# Altium integrated library Maxim Analog Filters.IntLib: 555 symbols (part 9 of 26)
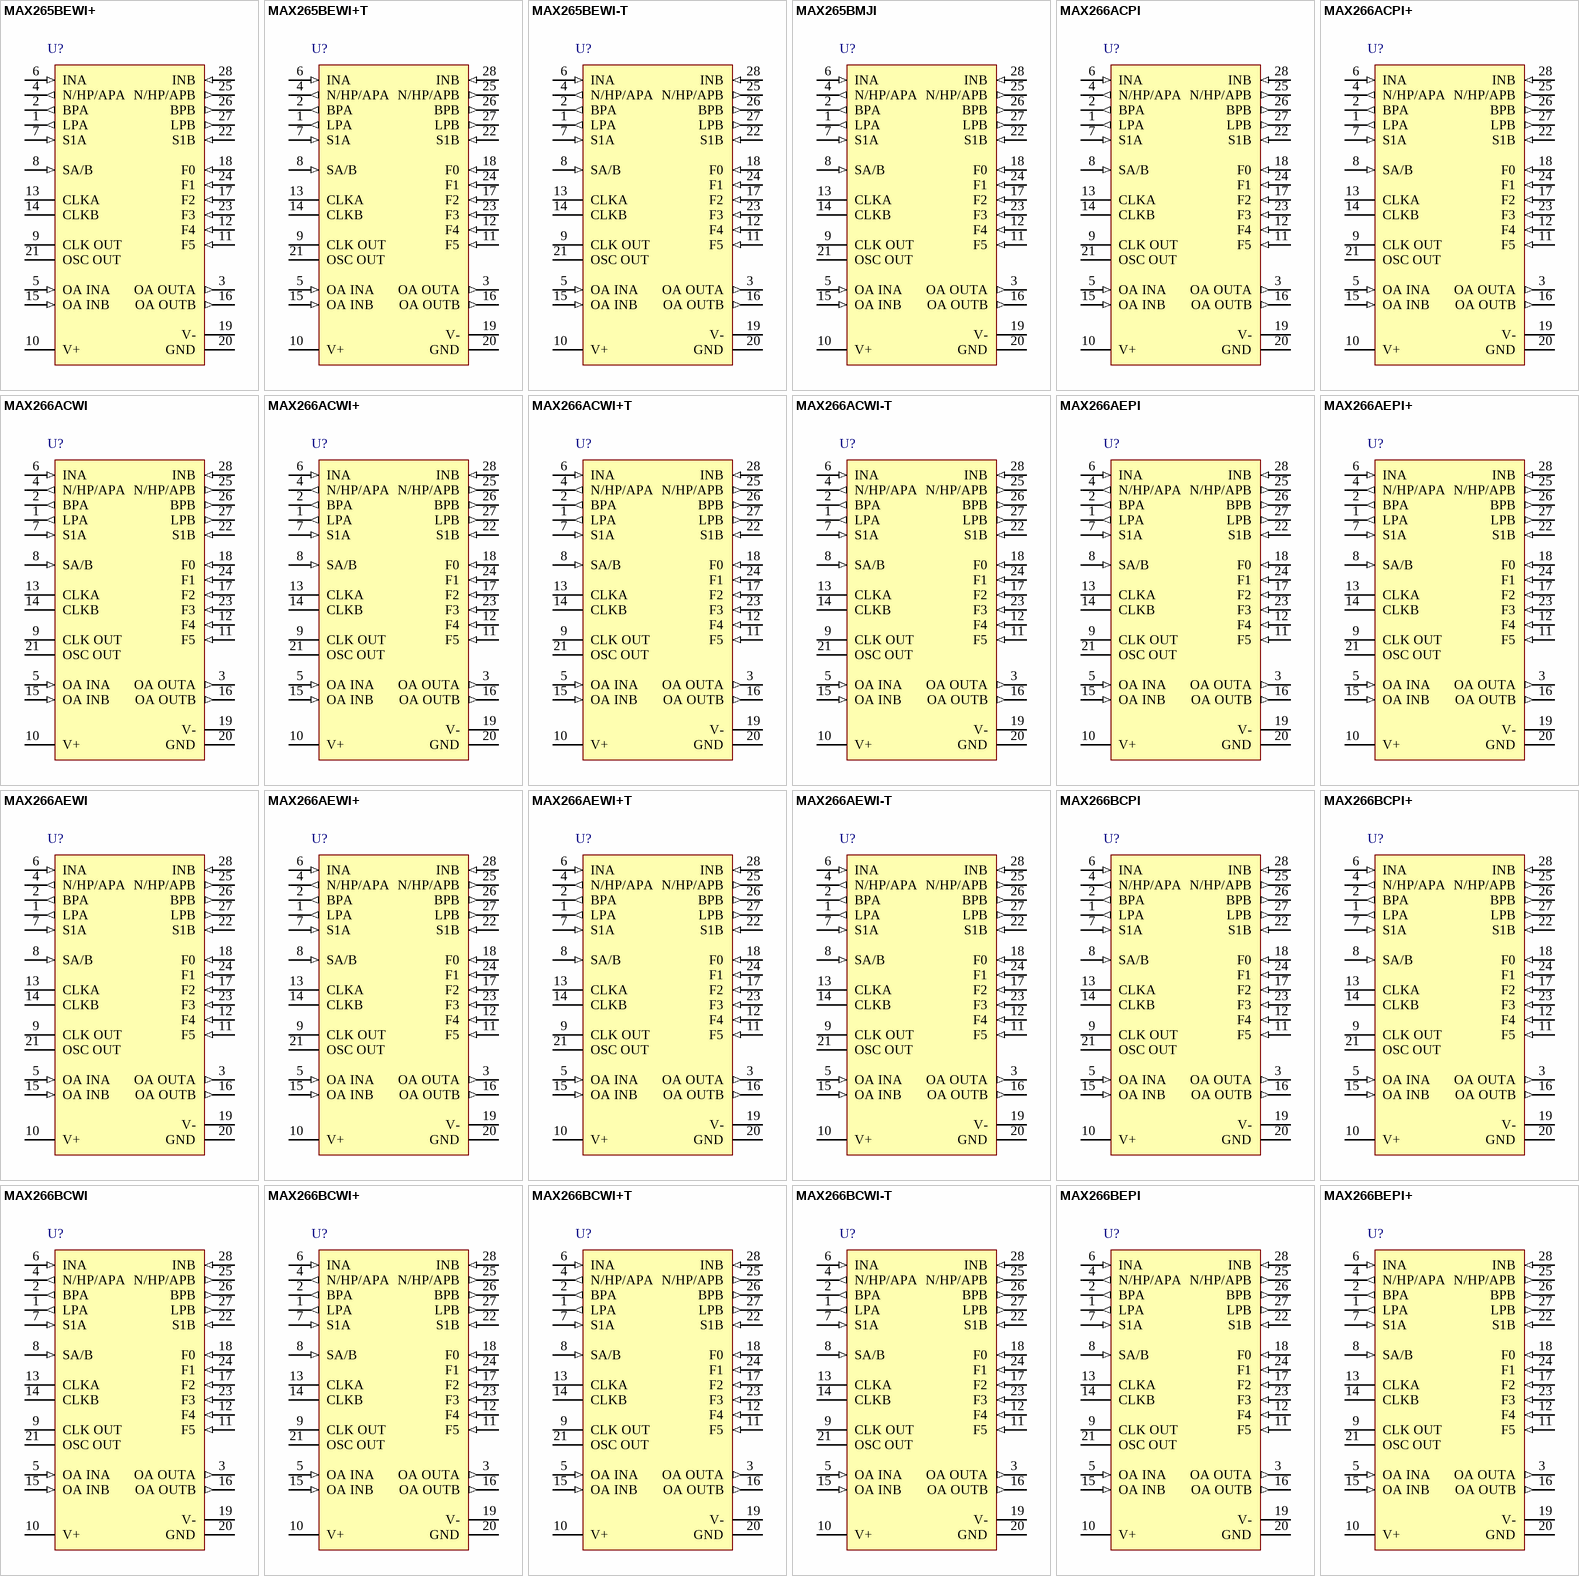
[diagram p25: symbols MAX265BEWI+ to MAX266BEPI+]

## MAX266BEPI+
designator U?
Switched Capacitor Filter, Pin Strap, Resistor Programmable, -40 to 85 degC, 28-Pin DIP (P28+5), Pb-Free; Generic Part Number: MAX266; PartNumber: MAX266BEPI+; Filter Sections: 2; Filter Type: Universal; DatasheetVersion: Rev. 0; PackageVersion: Rev. D, 04/2011; PackageReference: P28+5; PackageDescription: 28-Pin Plastic Dual-In-Line, Wide (0.6in) (P28+5), Body 36.83 x 13.975 mm, Pitch 2.54 mm; Supplier 1: Digi-Key; Supplier Part Number 1: MAX266BEPI+-ND; Supplier 2: Mouser; Supplier Part Number 2: 700-MAX266BEPI; Filter Characteristic: Programmable; Filter Class: Switched Cap; Order Per Filter Section: 2; Program Method: Pin Strap, Resistor; RoHS: Pb-Free; Mounting Technology: Through Hole; Code_JEDEC: MSO11; ComponentLink1Description: Manufacturer URL; ComponentLink1URL: http://www.maximintegrated.com/; ComponentLink2Description: Datasheet; ComponentLink2URL: http://datasheets.maximintegrated.com/en/ds/MAX265-MAX266.pdf; ComponentLink3Description: Package Specification; ComponentLink3URL: http://pdfserv.maximintegrated.com/package_dwgs/21-0044.PDF
footprint MAXM-P28+5 (DIP, 28-Leads, Body 36.83x13.975mm, Pitch 2.54mm)
pins: 1 LPA (out) "Lowpass outputs", 2 BPA (out) "Bandpass outputs", 3 OA OUTA (out) "Output of op amps A", 4 N/HP/APA (out), 5 OA INA (in) "Inverting input of op amps A", 6 INA (in) "Filter input", 7 S1A (in) "Auxiliary input to summing node in A filter. It receives feedback signals in various filter modes.", 8 SA/B (in) "When SA/B is high, one filter summing node is tied to the LP output. When SA/B is low, the summing node is grounded. See Mode diagrams (Figures 5-20) for SA/B connections.", 9 CLK OUT "Clock Output for crystal and R-C oscillator operation.", 10 V+ (power) "Positive supply voltage", 11 F5 (in) "Programming input for fCLK/f0 ratio", 12 F4 (in) "Programming input for fCLK/f0 ratio", 13 CLKA "Input to the oscillator and clock input to section A. This clock is internally divided by 2.", 14 CLKB "Clock input to filter B. This clock is internally divided by 2.", 15 OA INB (in) "Inverting input of op amps B", 16 OA OUTB (out) "Output of op amps B", 17 F2 (in) "Programming input for fCLK/f0 ratio", 18 F0 (in) "Programming input for fCLK/f0 ratio", 19 V- (power) "Negative supply voltage", 20 GND (power) "Analog Ground. Connect to the system ground for +/- supplies or to mid-supply for single supply operation. GND should be well bypassed in single supply applications.", 21 OSC OUT "Connects to crystal or R-C for self-clocked operation.", 22 S1B (in) "Auxiliary input to summing node in B filter. It receives feedback signals in various filter modes.", 23 F3 (in) "Programming input for fCLK/f0 ratio", 24 F1 (in) "Programming input for fCLK/f0 ratio", 25 N/HP/APB (out), 26 BPB (out) "Bandpass outputs", 27 LPB (out) "Lowpass outputs", 28 INB (in) "Filter input"

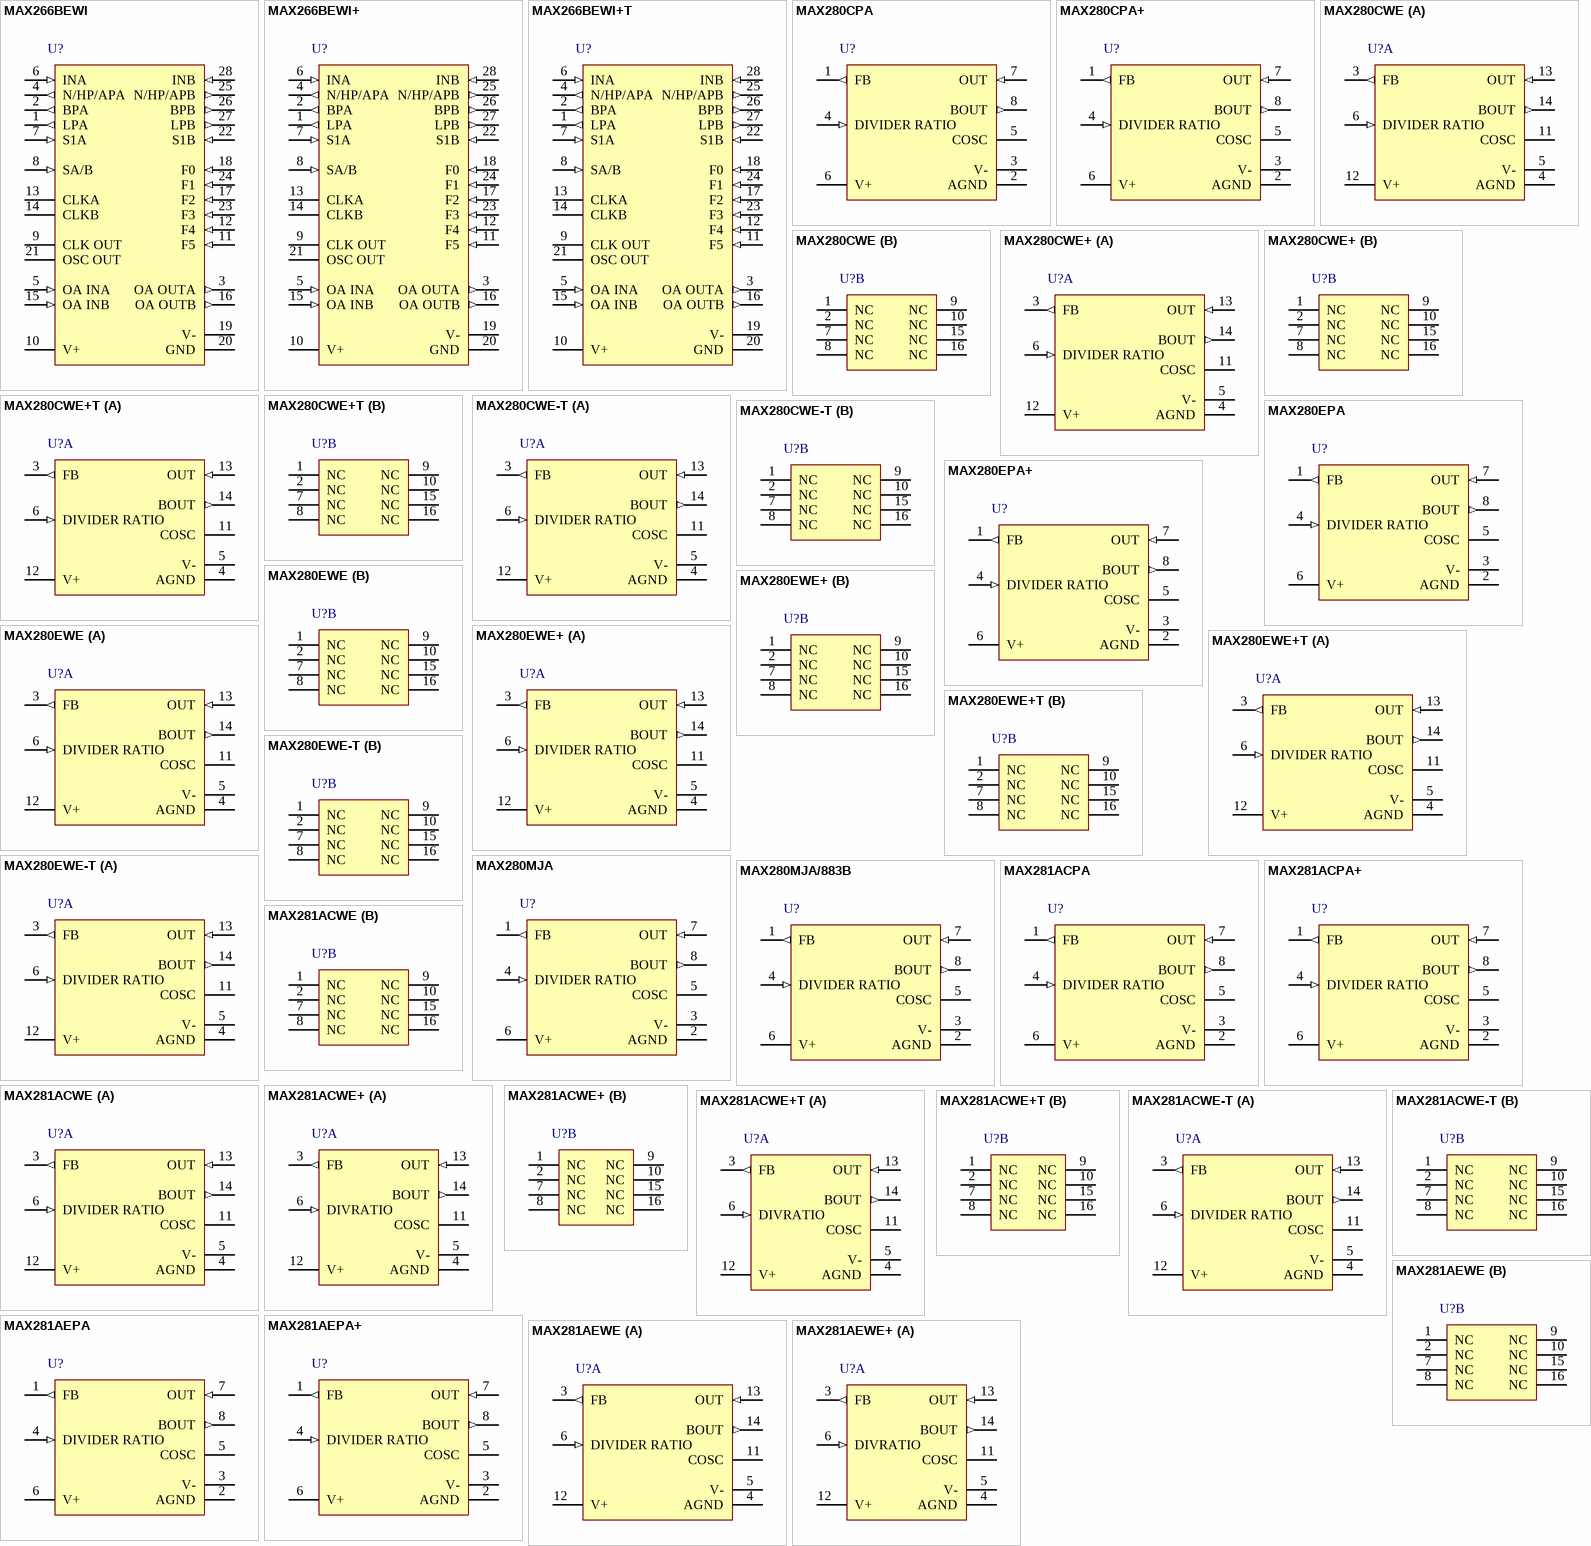
[diagram p6: symbols MAX266BEWI to MAX281AEWE+]

## MAX266BEWI
designator U?
Switched Capacitor Filter, Pin Strap, Resistor Programmable, -40 to 85 degC, 28-Pin SOIC (W28-5); Generic Part Number: MAX266; PartNumber: MAX266BEWI; Filter Sections: 2; Filter Type: Universal; DatasheetVersion: Rev. 0; PackageVersion: Rev. F, 10/2012; PackageReference: W28-5; PackageDescription: 28-Pin Small-Outline IC, Wide (0.3in) (W28-5), Body 17.9 x 7.5 mm, Pitch 1.27 mm; Supplier 1: Mouser; Supplier Part Number 1: N/A; Filter Characteristic: Programmable; Filter Class: Switched Cap; Order Per Filter Section: 2; Program Method: Pin Strap, Resistor; Mounting Technology: Surface Mount; Code_JEDEC: MS013; ComponentLink1Description: Manufacturer URL; ComponentLink1URL: http://www.maximintegrated.com/; ComponentLink2Description: Datasheet; ComponentLink2URL: http://datasheets.maximintegrated.com/en/ds/MAX265-MAX266.pdf; ComponentLink3Description: Package Specification; ComponentLink3URL: http://pdfserv.maximintegrated.com/package_dwgs/21-0042.PDF
footprint MAXM-W28-5_N (SOIC, 28-Leads, Body 17.9x7.5mm, Pitch 1.27mm, IPC Medium Density)
footprint MAXM-W28-5_L (SOIC, 28-Leads, Body 17.9x7.5mm, Pitch 1.27mm, IPC High Density)
footprint MAXM-W28-5_M (SOIC, 28-Leads, Body 17.9x7.5mm, Pitch 1.27mm, IPC Low Density)
pins: 1 LPA (out) "Lowpass outputs", 2 BPA (out) "Bandpass outputs", 3 OA OUTA (out) "Output of op amps A", 4 N/HP/APA (out), 5 OA INA (in) "Inverting input of op amps A", 6 INA (in) "Filter input", 7 S1A (in) "Auxiliary input to summing node in A filter. It receives feedback signals in various filter modes.", 8 SA/B (in) "When SA/B is high, one filter summing node is tied to the LP output. When SA/B is low, the summing node is grounded. See Mode diagrams (Figures 5-20) for SA/B connections.", 9 CLK OUT "Clock Output for crystal and R-C oscillator operation.", 10 V+ (power) "Positive supply voltage", 11 F5 (in) "Programming input for fCLK/f0 ratio", 12 F4 (in) "Programming input for fCLK/f0 ratio", 13 CLKA "Input to the oscillator and clock input to section A. This clock is internally divided by 2.", 14 CLKB "Clock input to filter B. This clock is internally divided by 2.", 15 OA INB (in) "Inverting input of op amps B", 16 OA OUTB (out) "Output of op amps B", 17 F2 (in) "Programming input for fCLK/f0 ratio", 18 F0 (in) "Programming input for fCLK/f0 ratio", 19 V- (power) "Negative supply voltage", 20 GND (power) "Analog Ground. Connect to the system ground for +/- supplies or to mid-supply for single supply operation. GND should be well bypassed in single supply applications.", 21 OSC OUT "Connects to crystal or R-C for self-clocked operation.", 22 S1B (in) "Auxiliary input to summing node in B filter. It receives feedback signals in various filter modes.", 23 F3 (in) "Programming input for fCLK/f0 ratio", 24 F1 (in) "Programming input for fCLK/f0 ratio", 25 N/HP/APB (out), 26 BPB (out) "Bandpass outputs", 27 LPB (out) "Lowpass outputs", 28 INB (in) "Filter input"

## MAX266BEWI+
designator U?
Switched Capacitor Filter, Pin Strap, Resistor Programmable, -40 to 85 degC, 28-Pin SOIC (W28+5), Pb-Free; Generic Part Number: MAX266; PartNumber: MAX266BEWI+; Filter Sections: 2; Filter Type: Universal; DatasheetVersion: Rev. 0; PackageVersion: Rev. F, 10/2012; PackageReference: W28+5; PackageDescription: 28-Pin Small-Outline IC, Wide (0.3in) (W28+5), Body 17.9 x 7.5 mm, Pitch 1.27 mm; Supplier 1: Digi-Key; Supplier Part Number 1: MAX266BEWI+-ND; Supplier 2: Mouser; Supplier Part Number 2: 700-MAX266BEWI; Filter Characteristic: Programmable; Filter Class: Switched Cap; Order Per Filter Section: 2; Program Method: Pin Strap, Resistor; RoHS: Pb-Free; Mounting Technology: Surface Mount; Code_JEDEC: MS013; ComponentLink1Description: Manufacturer URL; ComponentLink1URL: http://www.maximintegrated.com/; ComponentLink2Description: Datasheet; ComponentLink2URL: http://datasheets.maximintegrated.com/en/ds/MAX265-MAX266.pdf; ComponentLink3Description: Package Specification; ComponentLink3URL: http://pdfserv.maximintegrated.com/package_dwgs/21-0042.PDF
footprint MAXM-W28+5_N (SOIC, 28-Leads, Body 17.9x7.5mm, Pitch 1.27mm, IPC Medium Density)
footprint MAXM-W28+5_L (SOIC, 28-Leads, Body 17.9x7.5mm, Pitch 1.27mm, IPC High Density)
footprint MAXM-W28+5_M (SOIC, 28-Leads, Body 17.9x7.5mm, Pitch 1.27mm, IPC Low Density)
pins: 1 LPA (out) "Lowpass outputs", 2 BPA (out) "Bandpass outputs", 3 OA OUTA (out) "Output of op amps A", 4 N/HP/APA (out), 5 OA INA (in) "Inverting input of op amps A", 6 INA (in) "Filter input", 7 S1A (in) "Auxiliary input to summing node in A filter. It receives feedback signals in various filter modes.", 8 SA/B (in) "When SA/B is high, one filter summing node is tied to the LP output. When SA/B is low, the summing node is grounded. See Mode diagrams (Figures 5-20) for SA/B connections.", 9 CLK OUT "Clock Output for crystal and R-C oscillator operation.", 10 V+ (power) "Positive supply voltage", 11 F5 (in) "Programming input for fCLK/f0 ratio", 12 F4 (in) "Programming input for fCLK/f0 ratio", 13 CLKA "Input to the oscillator and clock input to section A. This clock is internally divided by 2.", 14 CLKB "Clock input to filter B. This clock is internally divided by 2.", 15 OA INB (in) "Inverting input of op amps B", 16 OA OUTB (out) "Output of op amps B", 17 F2 (in) "Programming input for fCLK/f0 ratio", 18 F0 (in) "Programming input for fCLK/f0 ratio", 19 V- (power) "Negative supply voltage", 20 GND (power) "Analog Ground. Connect to the system ground for +/- supplies or to mid-supply for single supply operation. GND should be well bypassed in single supply applications.", 21 OSC OUT "Connects to crystal or R-C for self-clocked operation.", 22 S1B (in) "Auxiliary input to summing node in B filter. It receives feedback signals in various filter modes.", 23 F3 (in) "Programming input for fCLK/f0 ratio", 24 F1 (in) "Programming input for fCLK/f0 ratio", 25 N/HP/APB (out), 26 BPB (out) "Bandpass outputs", 27 LPB (out) "Lowpass outputs", 28 INB (in) "Filter input"

## MAX266BEWI+T
designator U?
Switched Capacitor Filter, Pin Strap, Resistor Programmable, -40 to 85 degC, 28-Pin SOIC (W28+5), Pb-Free, Tape and Reel; Generic Part Number: MAX266; PartNumber: MAX266BEWI+T; Filter Sections: 2; Filter Type: Universal; DatasheetVersion: Rev. 0; PackageVersion: Rev. F, 10/2012; PackageReference: W28+5; PackageDescription: 28-Pin Small-Outline IC, Wide (0.3in) (W28+5), Body 17.9 x 7.5 mm, Pitch 1.27 mm; Supplier 1: Digi-Key; Supplier Part Number 1: MAX266BEWI+T-ND; Supplier 2: Mouser; Supplier Part Number 2: 700-MAX266BEWIT; Filter Characteristic: Programmable; Filter Class: Switched Cap; Order Per Filter Section: 2; Packing: Tape and Reel; Program Method: Pin Strap, Resistor; RoHS: Pb-Free; Mounting Technology: Surface Mount; Code_JEDEC: MS013; ComponentLink1Description: Manufacturer URL; ComponentLink1URL: http://www.maximintegrated.com/; ComponentLink2Description: Datasheet; ComponentLink2URL: http://datasheets.maximintegrated.com/en/ds/MAX265-MAX266.pdf; ComponentLink3Description: Package Specification; ComponentLink3URL: http://pdfserv.maximintegrated.com/package_dwgs/21-0042.PDF
footprint MAXM-W28+5_N (SOIC, 28-Leads, Body 17.9x7.5mm, Pitch 1.27mm, IPC Medium Density)
footprint MAXM-W28+5_L (SOIC, 28-Leads, Body 17.9x7.5mm, Pitch 1.27mm, IPC High Density)
footprint MAXM-W28+5_M (SOIC, 28-Leads, Body 17.9x7.5mm, Pitch 1.27mm, IPC Low Density)
pins: 1 LPA (out) "Lowpass outputs", 2 BPA (out) "Bandpass outputs", 3 OA OUTA (out) "Output of op amps A", 4 N/HP/APA (out), 5 OA INA (in) "Inverting input of op amps A", 6 INA (in) "Filter input", 7 S1A (in) "Auxiliary input to summing node in A filter. It receives feedback signals in various filter modes.", 8 SA/B (in) "When SA/B is high, one filter summing node is tied to the LP output. When SA/B is low, the summing node is grounded. See Mode diagrams (Figures 5-20) for SA/B connections.", 9 CLK OUT "Clock Output for crystal and R-C oscillator operation.", 10 V+ (power) "Positive supply voltage", 11 F5 (in) "Programming input for fCLK/f0 ratio", 12 F4 (in) "Programming input for fCLK/f0 ratio", 13 CLKA "Input to the oscillator and clock input to section A. This clock is internally divided by 2.", 14 CLKB "Clock input to filter B. This clock is internally divided by 2.", 15 OA INB (in) "Inverting input of op amps B", 16 OA OUTB (out) "Output of op amps B", 17 F2 (in) "Programming input for fCLK/f0 ratio", 18 F0 (in) "Programming input for fCLK/f0 ratio", 19 V- (power) "Negative supply voltage", 20 GND (power) "Analog Ground. Connect to the system ground for +/- supplies or to mid-supply for single supply operation. GND should be well bypassed in single supply applications.", 21 OSC OUT "Connects to crystal or R-C for self-clocked operation.", 22 S1B (in) "Auxiliary input to summing node in B filter. It receives feedback signals in various filter modes.", 23 F3 (in) "Programming input for fCLK/f0 ratio", 24 F1 (in) "Programming input for fCLK/f0 ratio", 25 N/HP/APB (out), 26 BPB (out) "Bandpass outputs", 27 LPB (out) "Lowpass outputs", 28 INB (in) "Filter input"

## MAX280CPA
designator U?
5th-Order Switched Capacitor Lowpass Filter, Butterworth, Zero-Error with Zero DC-Offset, 0 to 70 degC, 8-Pin DIP (P8-3); Generic Part Number: MAX280; PartNumber: MAX280CPA; Filter Sections: 1; Industry Qualified: MIL-STD-883B; Order Per Filter Section: 5; Program Method: Clock; DatasheetVersion: Rev. 3; PackageVersion: Rev. E, 04/2011; PackageReference: P8-3; PackageDescription: 8-Pin Plastic Dual-In-Line, Narrow (0.3in) (P8-3), Body 9.375 x 6.985 mm, Pitch 2.54 mm; Supplier 1: Mouser; Supplier Part Number 1: N/A; Filter Characteristic: Butterworth; Filter Class: Switched Cap; Filter Type: Lowpass; Mounting Technology: Through Hole; Code_JEDEC: MO-058AB; ComponentLink1Description: Manufacturer URL; ComponentLink1URL: http://www.maximintegrated.com/; ComponentLink2Description: Datasheet; ComponentLink2URL: http://datasheets.maximintegrated.com/en/ds/MAX280-MXL1062.pdf; ComponentLink3Description: Package Specification; ComponentLink3URL: http://pdfserv.maximintegrated.com/package_dwgs/21-0043.PDF
footprint MAXM-P8-3 (DIP, 8-Leads, Body 9.375x6.985mm, Pitch 2.54mm)
pins: 1 FB (out) "External capacitor couples to the chip through this pin.", 2 AGND (power) "Ground. Connect to system ground for dual supply operation or mid-supply for single operarion. This pin should be well bypassed using a large capacitor for single supply operation.", 3 V- (power) "Negative supply volatage", 4 DIVIDER RATIO (in) "The oscillator frequency is divided by either 1, 2 or 4 depending upon the voltage on this pin. This in turn gives a clock to cutoff frequency ratio when tied to V+ of 100:1; when tied to GND of 200:1; and when tied to V- of (See Datasheet)", 5 COSC "Clock input pin for external clock applications.For internal clock operation connect an external capacitor between this pin and V-.", 6 V+ (power) "Positive supply volatage", 7 OUT (in) "Input to on-chip buffer amplifer", 8 BOUT (out) "Output of buffer amplifier"

## MAX280CPA+
designator U?
5th-Order Switched Capacitor Lowpass Filter, Butterworth, Zero-Error with Zero DC-Offset, 0 to 70 degC, 8-Pin DIP (P8+3), Pb-Free; Generic Part Number: MAX280; PartNumber: MAX280CPA+; Filter Sections: 1; Industry Qualified: MIL-STD-883B; Order Per Filter Section: 5; Program Method: Clock; DatasheetVersion: Rev. 3; PackageVersion: Rev. E, 04/2011; PackageReference: P8+3; PackageDescription: 8-Pin Plastic Dual-In-Line, Narrow (0.3in) (P8+3), Body 9.375 x 6.985 mm, Pitch 2.54 mm; Supplier 1: Digi-Key; Supplier Part Number 1: MAX280CPA+-ND; Supplier 2: Mouser; Supplier Part Number 2: 700-MAX280CPA; Filter Characteristic: Butterworth; Filter Class: Switched Cap; Filter Type: Lowpass; RoHS: Pb-Free; Mounting Technology: Through Hole; Code_JEDEC: MO-058AB; ComponentLink1Description: Manufacturer URL; ComponentLink1URL: http://www.maximintegrated.com/; ComponentLink2Description: Datasheet; ComponentLink2URL: http://datasheets.maximintegrated.com/en/ds/MAX280-MXL1062.pdf; ComponentLink3Description: Package Specification; ComponentLink3URL: http://pdfserv.maximintegrated.com/package_dwgs/21-0043.PDF
footprint MAXM-P8+3 (DIP, 8-Leads, Body 9.375x6.985mm, Pitch 2.54mm)
pins: 1 FB (out) "External capacitor couples to the chip through this pin.", 2 AGND (power) "Ground. Connect to system ground for dual supply operation or mid-supply for single operarion. This pin should be well bypassed using a large capacitor for single supply operation.", 3 V- (power) "Negative supply volatage", 4 DIVIDER RATIO (in) "The oscillator frequency is divided by either 1, 2 or 4 depending upon the voltage on this pin. This in turn gives a clock to cutoff frequency ratio when tied to V+ of 100:1; when tied to GND of 200:1; and when tied to V- of (See Datasheet)", 5 COSC "Clock input pin for external clock applications.For internal clock operation connect an external capacitor between this pin and V-.", 6 V+ (power) "Positive supply volatage", 7 OUT (in) "Input to on-chip buffer amplifer", 8 BOUT (out) "Output of buffer amplifier"

## MAX280CWE
designator U?
5th-Order Switched Capacitor Lowpass Filter, Butterworth, Zero-Error with Zero DC-Offset, 0 to 70 degC, 16-Pin SOIC (W16-2); Generic Part Number: MAX280; PartNumber: MAX280CWE; Filter Sections: 1; Industry Qualified: MIL-STD-883B; Order Per Filter Section: 5; Program Method: Clock; DatasheetVersion: Rev. 3; PackageVersion: Rev. F, 10/2012; PackageReference: W16-2; PackageDescription: 16-Pin Small-Outline IC, Wide (0.3in) (W16-2), Body 10.3 x 7.5 mm, Pitch 1.27 mm; Supplier 1: Mouser; Supplier Part Number 1: N/A; Filter Characteristic: Butterworth; Filter Class: Switched Cap; Filter Type: Lowpass; Mounting Technology: Surface Mount; Code_JEDEC: MS013; ComponentLink1Description: Manufacturer URL; ComponentLink1URL: http://www.maximintegrated.com/; ComponentLink2Description: Datasheet; ComponentLink2URL: http://datasheets.maximintegrated.com/en/ds/MAX280-MXL1062.pdf; ComponentLink3Description: Package Specification; ComponentLink3URL: http://pdfserv.maximintegrated.com/package_dwgs/21-0042.PDF
footprint MAXM-W16-2_N (SOIC, 16-Leads, Body 10.3x7.5mm, Pitch 1.27mm, IPC Medium Density)
footprint MAXM-W16-2_L (SOIC, 16-Leads, Body 10.3x7.5mm, Pitch 1.27mm, IPC High Density)
footprint MAXM-W16-2_M (SOIC, 16-Leads, Body 10.3x7.5mm, Pitch 1.27mm, IPC Low Density)
part A pins: 3 FB (out) "External capacitor couples to the chip through this pin.", 4 AGND (power) "Ground. Connect to system ground for dual supply operation or mid-supply for single operarion. This pin should be well bypassed using a large capacitor for single supply operation.", 5 V- (power) "Negative supply volatage", 6 DIVIDER RATIO (in) "The oscillator frequency is divided by either 1, 2 or 4 depending upon the voltage on this pin. This in turn gives a clock to cutoff frequency ratio when tied to V+ of 100:1; when tied to GND of 200:1; and when tied to V- of (See Datasheet)", 11 COSC "Clock input pin for external clock applications.For internal clock operation connect an external capacitor between this pin and V-.", 12 V+ (power) "Positive supply volatage", 13 OUT (in) "Input to on-chip buffer amplifer", 14 BOUT (out) "Output of buffer amplifier"
part B pins: 1 NC, 2 NC, 7 NC, 8 NC, 9 NC, 10 NC, 15 NC, 16 NC

## MAX280CWE+
designator U?
5th-Order Switched Capacitor Lowpass Filter, Butterworth, Zero-Error with Zero DC-Offset, 0 to 70 degC, 16-Pin SOIC (W16+2), Pb-Free; Generic Part Number: MAX280; PartNumber: MAX280CWE+; Filter Sections: 1; Industry Qualified: MIL-STD-883B; Order Per Filter Section: 5; Program Method: Clock; DatasheetVersion: Rev. 3; PackageVersion: Rev. F, 10/2012; PackageReference: W16+2; PackageDescription: 16-Pin Small-Outline IC, Wide (0.3in) (W16+2), Body 10.3 x 7.5 mm, Pitch 1.27 mm; Supplier 1: Digi-Key; Supplier Part Number 1: MAX280CWE+-ND; Supplier 2: Mouser; Supplier Part Number 2: 700-MAX280CWE; Filter Characteristic: Butterworth; Filter Class: Switched Cap; Filter Type: Lowpass; RoHS: Pb-Free; Mounting Technology: Surface Mount; Code_JEDEC: MS013; ComponentLink1Description: Manufacturer URL; ComponentLink1URL: http://www.maximintegrated.com/; ComponentLink2Description: Datasheet; ComponentLink2URL: http://datasheets.maximintegrated.com/en/ds/MAX280-MXL1062.pdf; ComponentLink3Description: Package Specification; ComponentLink3URL: http://pdfserv.maximintegrated.com/package_dwgs/21-0042.PDF
footprint MAXM-W16+2_N (SOIC, 16-Leads, Body 10.3x7.5mm, Pitch 1.27mm, IPC Medium Density)
footprint MAXM-W16+2_L (SOIC, 16-Leads, Body 10.3x7.5mm, Pitch 1.27mm, IPC High Density)
footprint MAXM-W16+2_M (SOIC, 16-Leads, Body 10.3x7.5mm, Pitch 1.27mm, IPC Low Density)
part A pins: 3 FB (out) "External capacitor couples to the chip through this pin.", 4 AGND (power) "Ground. Connect to system ground for dual supply operation or mid-supply for single operarion. This pin should be well bypassed using a large capacitor for single supply operation.", 5 V- (power) "Negative supply volatage", 6 DIVIDER RATIO (in) "The oscillator frequency is divided by either 1, 2 or 4 depending upon the voltage on this pin. This in turn gives a clock to cutoff frequency ratio when tied to V+ of 100:1; when tied to GND of 200:1; and when tied to V- of (See Datasheet)", 11 COSC "Clock input pin for external clock applications.For internal clock operation connect an external capacitor between this pin and V-.", 12 V+ (power) "Positive supply volatage", 13 OUT (in) "Input to on-chip buffer amplifer", 14 BOUT (out) "Output of buffer amplifier"
part B pins: 1 NC, 2 NC, 7 NC, 8 NC, 9 NC, 10 NC, 15 NC, 16 NC

## MAX280CWE+T
designator U?
5th-Order Switched Capacitor Lowpass Filter, Butterworth, Zero-Error with Zero DC-Offset, 0 to 70 degC, 16-Pin SOIC (W16+2), Pb-Free, Tape and Reel; Generic Part Number: MAX280; PartNumber: MAX280CWE+T; Filter Sections: 1; Industry Qualified: MIL-STD-883B; Order Per Filter Section: 5; Program Method: Clock; DatasheetVersion: Rev. 3; PackageVersion: Rev. F, 10/2012; PackageReference: W16+2; PackageDescription: 16-Pin Small-Outline IC, Wide (0.3in) (W16+2), Body 10.3 x 7.5 mm, Pitch 1.27 mm; Supplier 1: Digi-Key; Supplier Part Number 1: MAX280CWE+T-ND; Supplier 2: Mouser; Supplier Part Number 2: 700-MAX280CWET; Filter Characteristic: Butterworth; Filter Class: Switched Cap; Filter Type: Lowpass; Packing: Tape and Reel; RoHS: Pb-Free; Mounting Technology: Surface Mount; Code_JEDEC: MS013; ComponentLink1Description: Manufacturer URL; ComponentLink1URL: http://www.maximintegrated.com/; ComponentLink2Description: Datasheet; ComponentLink2URL: http://datasheets.maximintegrated.com/en/ds/MAX280-MXL1062.pdf; ComponentLink3Description: Package Specification; ComponentLink3URL: http://pdfserv.maximintegrated.com/package_dwgs/21-0042.PDF
footprint MAXM-W16+2_N (SOIC, 16-Leads, Body 10.3x7.5mm, Pitch 1.27mm, IPC Medium Density)
footprint MAXM-W16+2_L (SOIC, 16-Leads, Body 10.3x7.5mm, Pitch 1.27mm, IPC High Density)
footprint MAXM-W16+2_M (SOIC, 16-Leads, Body 10.3x7.5mm, Pitch 1.27mm, IPC Low Density)
part A pins: 3 FB (out) "External capacitor couples to the chip through this pin.", 4 AGND (power) "Ground. Connect to system ground for dual supply operation or mid-supply for single operarion. This pin should be well bypassed using a large capacitor for single supply operation.", 5 V- (power) "Negative supply volatage", 6 DIVIDER RATIO (in) "The oscillator frequency is divided by either 1, 2 or 4 depending upon the voltage on this pin. This in turn gives a clock to cutoff frequency ratio when tied to V+ of 100:1; when tied to GND of 200:1; and when tied to V- of (See Datasheet)", 11 COSC "Clock input pin for external clock applications.For internal clock operation connect an external capacitor between this pin and V-.", 12 V+ (power) "Positive supply volatage", 13 OUT (in) "Input to on-chip buffer amplifer", 14 BOUT (out) "Output of buffer amplifier"
part B pins: 1 NC, 2 NC, 7 NC, 8 NC, 9 NC, 10 NC, 15 NC, 16 NC

## MAX280CWE-T
designator U?
5th-Order Switched Capacitor Lowpass Filter, Butterworth, Zero-Error with Zero DC-Offset, 0 to 70 degC, 16-Pin SOIC (W16-2), Tape and Reel; Generic Part Number: MAX280; PartNumber: MAX280CWE-T; Filter Sections: 1; Industry Qualified: MIL-STD-883B; Order Per Filter Section: 5; Program Method: Clock; DatasheetVersion: Rev. 3; PackageVersion: Rev. F, 10/2012; PackageReference: W16-2; PackageDescription: 16-Pin Small-Outline IC, Wide (0.3in) (W16-2), Body 10.3 x 7.5 mm, Pitch 1.27 mm; Supplier 1: Mouser; Supplier Part Number 1: N/A; Filter Characteristic: Butterworth; Filter Class: Switched Cap; Filter Type: Lowpass; Packing: Tape and Reel; Mounting Technology: Surface Mount; Code_JEDEC: MS013; ComponentLink1Description: Manufacturer URL; ComponentLink1URL: http://www.maximintegrated.com/; ComponentLink2Description: Datasheet; ComponentLink2URL: http://datasheets.maximintegrated.com/en/ds/MAX280-MXL1062.pdf; ComponentLink3Description: Package Specification; ComponentLink3URL: http://pdfserv.maximintegrated.com/package_dwgs/21-0042.PDF
footprint MAXM-W16-2_N (SOIC, 16-Leads, Body 10.3x7.5mm, Pitch 1.27mm, IPC Medium Density)
footprint MAXM-W16-2_L (SOIC, 16-Leads, Body 10.3x7.5mm, Pitch 1.27mm, IPC High Density)
footprint MAXM-W16-2_M (SOIC, 16-Leads, Body 10.3x7.5mm, Pitch 1.27mm, IPC Low Density)
part A pins: 3 FB (out) "External capacitor couples to the chip through this pin.", 4 AGND (power) "Ground. Connect to system ground for dual supply operation or mid-supply for single operarion. This pin should be well bypassed using a large capacitor for single supply operation.", 5 V- (power) "Negative supply volatage", 6 DIVIDER RATIO (in) "The oscillator frequency is divided by either 1, 2 or 4 depending upon the voltage on this pin. This in turn gives a clock to cutoff frequency ratio when tied to V+ of 100:1; when tied to GND of 200:1; and when tied to V- of (See Datasheet)", 11 COSC "Clock input pin for external clock applications.For internal clock operation connect an external capacitor between this pin and V-.", 12 V+ (power) "Positive supply volatage", 13 OUT (in) "Input to on-chip buffer amplifer", 14 BOUT (out) "Output of buffer amplifier"
part B pins: 1 NC, 2 NC, 7 NC, 8 NC, 9 NC, 10 NC, 15 NC, 16 NC

## MAX280EPA
designator U?
5th-Order Switched Capacitor Lowpass Filter, Butterworth, Zero-Error with Zero DC-Offset, -40 to 85 degC, 8-Pin DIP (P8-3); Generic Part Number: MAX280; PartNumber: MAX280EPA; Filter Sections: 1; Industry Qualified: MIL-STD-883B; Order Per Filter Section: 5; Program Method: Clock; DatasheetVersion: Rev. 3; PackageVersion: Rev. E, 04/2011; PackageReference: P8-3; PackageDescription: 8-Pin Plastic Dual-In-Line, Narrow (0.3in) (P8-3), Body 9.375 x 6.985 mm, Pitch 2.54 mm; Supplier 1: Mouser; Supplier Part Number 1: N/A; Filter Characteristic: Butterworth; Filter Class: Switched Cap; Filter Type: Lowpass; Mounting Technology: Through Hole; Code_JEDEC: MO-058AB; ComponentLink1Description: Manufacturer URL; ComponentLink1URL: http://www.maximintegrated.com/; ComponentLink2Description: Datasheet; ComponentLink2URL: http://datasheets.maximintegrated.com/en/ds/MAX280-MXL1062.pdf; ComponentLink3Description: Package Specification; ComponentLink3URL: http://pdfserv.maximintegrated.com/package_dwgs/21-0043.PDF
footprint MAXM-P8-3 (DIP, 8-Leads, Body 9.375x6.985mm, Pitch 2.54mm)
pins: 1 FB (out) "External capacitor couples to the chip through this pin.", 2 AGND (power) "Ground. Connect to system ground for dual supply operation or mid-supply for single operarion. This pin should be well bypassed using a large capacitor for single supply operation.", 3 V- (power) "Negative supply volatage", 4 DIVIDER RATIO (in) "The oscillator frequency is divided by either 1, 2 or 4 depending upon the voltage on this pin. This in turn gives a clock to cutoff frequency ratio when tied to V+ of 100:1; when tied to GND of 200:1; and when tied to V- of (See Datasheet)", 5 COSC "Clock input pin for external clock applications.For internal clock operation connect an external capacitor between this pin and V-.", 6 V+ (power) "Positive supply volatage", 7 OUT (in) "Input to on-chip buffer amplifer", 8 BOUT (out) "Output of buffer amplifier"

## MAX280EPA+
designator U?
5th-Order Switched Capacitor Lowpass Filter, Butterworth, Zero-Error with Zero DC-Offset, -40 to 85 degC, 8-Pin DIP (P8+3), Pb-Free; Generic Part Number: MAX280; PartNumber: MAX280EPA+; Filter Sections: 1; Industry Qualified: MIL-STD-883B; Order Per Filter Section: 5; Program Method: Clock; DatasheetVersion: Rev. 3; PackageVersion: Rev. E, 04/2011; PackageReference: P8+3; PackageDescription: 8-Pin Plastic Dual-In-Line, Narrow (0.3in) (P8+3), Body 9.375 x 6.985 mm, Pitch 2.54 mm; Supplier 1: Digi-Key; Supplier Part Number 1: MAX280EPA+-ND; Supplier 2: Mouser; Supplier Part Number 2: 700-MAX280EPA; Filter Characteristic: Butterworth; Filter Class: Switched Cap; Filter Type: Lowpass; RoHS: Pb-Free; Mounting Technology: Through Hole; Code_JEDEC: MO-058AB; ComponentLink1Description: Manufacturer URL; ComponentLink1URL: http://www.maximintegrated.com/; ComponentLink2Description: Datasheet; ComponentLink2URL: http://datasheets.maximintegrated.com/en/ds/MAX280-MXL1062.pdf; ComponentLink3Description: Package Specification; ComponentLink3URL: http://pdfserv.maximintegrated.com/package_dwgs/21-0043.PDF
footprint MAXM-P8+3 (DIP, 8-Leads, Body 9.375x6.985mm, Pitch 2.54mm)
pins: 1 FB (out) "External capacitor couples to the chip through this pin.", 2 AGND (power) "Ground. Connect to system ground for dual supply operation or mid-supply for single operarion. This pin should be well bypassed using a large capacitor for single supply operation.", 3 V- (power) "Negative supply volatage", 4 DIVIDER RATIO (in) "The oscillator frequency is divided by either 1, 2 or 4 depending upon the voltage on this pin. This in turn gives a clock to cutoff frequency ratio when tied to V+ of 100:1; when tied to GND of 200:1; and when tied to V- of (See Datasheet)", 5 COSC "Clock input pin for external clock applications.For internal clock operation connect an external capacitor between this pin and V-.", 6 V+ (power) "Positive supply volatage", 7 OUT (in) "Input to on-chip buffer amplifer", 8 BOUT (out) "Output of buffer amplifier"

## MAX280EWE
designator U?
5th-Order Switched Capacitor Lowpass Filter, Butterworth, Zero-Error with Zero DC-Offset, -40 to 85 degC, 16-Pin SOIC (W16-2); Generic Part Number: MAX280; PartNumber: MAX280EWE; Filter Sections: 1; Industry Qualified: MIL-STD-883B; Order Per Filter Section: 5; Program Method: Clock; DatasheetVersion: Rev. 3; PackageVersion: Rev. F, 10/2012; PackageReference: W16-2; PackageDescription: 16-Pin Small-Outline IC, Wide (0.3in) (W16-2), Body 10.3 x 7.5 mm, Pitch 1.27 mm; Supplier 1: Mouser; Supplier Part Number 1: N/A; Filter Characteristic: Butterworth; Filter Class: Switched Cap; Filter Type: Lowpass; Mounting Technology: Surface Mount; Code_JEDEC: MS013; ComponentLink1Description: Manufacturer URL; ComponentLink1URL: http://www.maximintegrated.com/; ComponentLink2Description: Datasheet; ComponentLink2URL: http://datasheets.maximintegrated.com/en/ds/MAX280-MXL1062.pdf; ComponentLink3Description: Package Specification; ComponentLink3URL: http://pdfserv.maximintegrated.com/package_dwgs/21-0042.PDF
footprint MAXM-W16-2_N (SOIC, 16-Leads, Body 10.3x7.5mm, Pitch 1.27mm, IPC Medium Density)
footprint MAXM-W16-2_L (SOIC, 16-Leads, Body 10.3x7.5mm, Pitch 1.27mm, IPC High Density)
footprint MAXM-W16-2_M (SOIC, 16-Leads, Body 10.3x7.5mm, Pitch 1.27mm, IPC Low Density)
part A pins: 3 FB (out) "External capacitor couples to the chip through this pin.", 4 AGND (power) "Ground. Connect to system ground for dual supply operation or mid-supply for single operarion. This pin should be well bypassed using a large capacitor for single supply operation.", 5 V- (power) "Negative supply volatage", 6 DIVIDER RATIO (in) "The oscillator frequency is divided by either 1, 2 or 4 depending upon the voltage on this pin. This in turn gives a clock to cutoff frequency ratio when tied to V+ of 100:1; when tied to GND of 200:1; and when tied to V- of (See Datasheet)", 11 COSC "Clock input pin for external clock applications.For internal clock operation connect an external capacitor between this pin and V-.", 12 V+ (power) "Positive supply volatage", 13 OUT (in) "Input to on-chip buffer amplifer", 14 BOUT (out) "Output of buffer amplifier"
part B pins: 1 NC, 2 NC, 7 NC, 8 NC, 9 NC, 10 NC, 15 NC, 16 NC

## MAX280EWE+
designator U?
5th-Order Switched Capacitor Lowpass Filter, Butterworth, Zero-Error with Zero DC-Offset, -40 to 85 degC, 16-Pin SOIC (W16+2), Pb-Free; Generic Part Number: MAX280; PartNumber: MAX280EWE+; Filter Sections: 1; Industry Qualified: MIL-STD-883B; Order Per Filter Section: 5; Program Method: Clock; DatasheetVersion: Rev. 3; PackageVersion: Rev. F, 10/2012; PackageReference: W16+2; PackageDescription: 16-Pin Small-Outline IC, Wide (0.3in) (W16+2), Body 10.3 x 7.5 mm, Pitch 1.27 mm; Supplier 1: Digi-Key; Supplier Part Number 1: MAX280EWE+-ND; Supplier 2: Farnell; Supplier Part Number 2: 1550453; Supplier 3: Mouser; Supplier Part Number 3: 700-MAX280EWE; Filter Characteristic: Butterworth; Filter Class: Switched Cap; Filter Type: Lowpass; RoHS: Pb-Free; Mounting Technology: Surface Mount; Code_JEDEC: MS013; ComponentLink1Description: Manufacturer URL; ComponentLink1URL: http://www.maximintegrated.com/; ComponentLink2Description: Datasheet; ComponentLink2URL: http://datasheets.maximintegrated.com/en/ds/MAX280-MXL1062.pdf; ComponentLink3Description: Package Specification; ComponentLink3URL: http://pdfserv.maximintegrated.com/package_dwgs/21-0042.PDF
footprint MAXM-W16+2_N (SOIC, 16-Leads, Body 10.3x7.5mm, Pitch 1.27mm, IPC Medium Density)
footprint MAXM-W16+2_L (SOIC, 16-Leads, Body 10.3x7.5mm, Pitch 1.27mm, IPC High Density)
footprint MAXM-W16+2_M (SOIC, 16-Leads, Body 10.3x7.5mm, Pitch 1.27mm, IPC Low Density)
part A pins: 3 FB (out) "External capacitor couples to the chip through this pin.", 4 AGND (power) "Ground. Connect to system ground for dual supply operation or mid-supply for single operarion. This pin should be well bypassed using a large capacitor for single supply operation.", 5 V- (power) "Negative supply volatage", 6 DIVIDER RATIO (in) "The oscillator frequency is divided by either 1, 2 or 4 depending upon the voltage on this pin. This in turn gives a clock to cutoff frequency ratio when tied to V+ of 100:1; when tied to GND of 200:1; and when tied to V- of (See Datasheet)", 11 COSC "Clock input pin for external clock applications.For internal clock operation connect an external capacitor between this pin and V-.", 12 V+ (power) "Positive supply volatage", 13 OUT (in) "Input to on-chip buffer amplifer", 14 BOUT (out) "Output of buffer amplifier"
part B pins: 1 NC, 2 NC, 7 NC, 8 NC, 9 NC, 10 NC, 15 NC, 16 NC

## MAX280EWE+T
designator U?
5th-Order Switched Capacitor Lowpass Filter, Butterworth, Zero-Error with Zero DC-Offset, -40 to 85 degC, 16-Pin SOIC (W16+2), Pb-Free, Tape and Reel; Generic Part Number: MAX280; PartNumber: MAX280EWE+T; Filter Sections: 1; Industry Qualified: MIL-STD-883B; Order Per Filter Section: 5; Program Method: Clock; DatasheetVersion: Rev. 3; PackageVersion: Rev. F, 10/2012; PackageReference: W16+2; PackageDescription: 16-Pin Small-Outline IC, Wide (0.3in) (W16+2), Body 10.3 x 7.5 mm, Pitch 1.27 mm; Supplier 1: Digi-Key; Supplier Part Number 1: MAX280EWE+T-ND; Supplier 2: Mouser; Supplier Part Number 2: 700-MAX280EWET; Filter Characteristic: Butterworth; Filter Class: Switched Cap; Filter Type: Lowpass; Packing: Tape and Reel; RoHS: Pb-Free; Mounting Technology: Surface Mount; Code_JEDEC: MS013; ComponentLink1Description: Manufacturer URL; ComponentLink1URL: http://www.maximintegrated.com/; ComponentLink2Description: Datasheet; ComponentLink2URL: http://datasheets.maximintegrated.com/en/ds/MAX280-MXL1062.pdf; ComponentLink3Description: Package Specification; ComponentLink3URL: http://pdfserv.maximintegrated.com/package_dwgs/21-0042.PDF
footprint MAXM-W16+2_N (SOIC, 16-Leads, Body 10.3x7.5mm, Pitch 1.27mm, IPC Medium Density)
footprint MAXM-W16+2_L (SOIC, 16-Leads, Body 10.3x7.5mm, Pitch 1.27mm, IPC High Density)
footprint MAXM-W16+2_M (SOIC, 16-Leads, Body 10.3x7.5mm, Pitch 1.27mm, IPC Low Density)
part A pins: 3 FB (out) "External capacitor couples to the chip through this pin.", 4 AGND (power) "Ground. Connect to system ground for dual supply operation or mid-supply for single operarion. This pin should be well bypassed using a large capacitor for single supply operation.", 5 V- (power) "Negative supply volatage", 6 DIVIDER RATIO (in) "The oscillator frequency is divided by either 1, 2 or 4 depending upon the voltage on this pin. This in turn gives a clock to cutoff frequency ratio when tied to V+ of 100:1; when tied to GND of 200:1; and when tied to V- of (See Datasheet)", 11 COSC "Clock input pin for external clock applications.For internal clock operation connect an external capacitor between this pin and V-.", 12 V+ (power) "Positive supply volatage", 13 OUT (in) "Input to on-chip buffer amplifer", 14 BOUT (out) "Output of buffer amplifier"
part B pins: 1 NC, 2 NC, 7 NC, 8 NC, 9 NC, 10 NC, 15 NC, 16 NC

## MAX280EWE-T
designator U?
5th-Order Switched Capacitor Lowpass Filter, Butterworth, Zero-Error with Zero DC-Offset, -40 to 85 degC, 16-Pin SOIC (W16-2), Tape and Reel; Generic Part Number: MAX280; PartNumber: MAX280EWE-T; Filter Sections: 1; Industry Qualified: MIL-STD-883B; Order Per Filter Section: 5; Program Method: Clock; DatasheetVersion: Rev. 3; PackageVersion: Rev. F, 10/2012; PackageReference: W16-2; PackageDescription: 16-Pin Small-Outline IC, Wide (0.3in) (W16-2), Body 10.3 x 7.5 mm, Pitch 1.27 mm; Supplier 1: Mouser; Supplier Part Number 1: N/A; Filter Characteristic: Butterworth; Filter Class: Switched Cap; Filter Type: Lowpass; Packing: Tape and Reel; Mounting Technology: Surface Mount; Code_JEDEC: MS013; ComponentLink1Description: Manufacturer URL; ComponentLink1URL: http://www.maximintegrated.com/; ComponentLink2Description: Datasheet; ComponentLink2URL: http://datasheets.maximintegrated.com/en/ds/MAX280-MXL1062.pdf; ComponentLink3Description: Package Specification; ComponentLink3URL: http://pdfserv.maximintegrated.com/package_dwgs/21-0042.PDF
footprint MAXM-W16-2_N (SOIC, 16-Leads, Body 10.3x7.5mm, Pitch 1.27mm, IPC Medium Density)
footprint MAXM-W16-2_L (SOIC, 16-Leads, Body 10.3x7.5mm, Pitch 1.27mm, IPC High Density)
footprint MAXM-W16-2_M (SOIC, 16-Leads, Body 10.3x7.5mm, Pitch 1.27mm, IPC Low Density)
part A pins: 3 FB (out) "External capacitor couples to the chip through this pin.", 4 AGND (power) "Ground. Connect to system ground for dual supply operation or mid-supply for single operarion. This pin should be well bypassed using a large capacitor for single supply operation.", 5 V- (power) "Negative supply volatage", 6 DIVIDER RATIO (in) "The oscillator frequency is divided by either 1, 2 or 4 depending upon the voltage on this pin. This in turn gives a clock to cutoff frequency ratio when tied to V+ of 100:1; when tied to GND of 200:1; and when tied to V- of (See Datasheet)", 11 COSC "Clock input pin for external clock applications.For internal clock operation connect an external capacitor between this pin and V-.", 12 V+ (power) "Positive supply volatage", 13 OUT (in) "Input to on-chip buffer amplifer", 14 BOUT (out) "Output of buffer amplifier"
part B pins: 1 NC, 2 NC, 7 NC, 8 NC, 9 NC, 10 NC, 15 NC, 16 NC

## MAX280MJA
designator U?
5th-Order Switched Capacitor Lowpass Filter, Butterworth, Zero-Error with Zero DC-Offset, -55 to 125 degC, 8-Pin DIP (J8-2); Generic Part Number: MAX280; PartNumber: MAX280MJA; Filter Sections: 1; Industry Qualified: MIL-STD-883B; Order Per Filter Section: 5; Program Method: Clock; DatasheetVersion: Rev. 3; PackageVersion: Rev. B, 05/2011; PackageReference: J8-2; PackageDescription: 8-Pin Ceramic Dual-In-Line, Narrow (0.3in) (J8-2), Body 10.29 x 6.73 mm, Pitch 2.54 mm; Supplier 1: Mouser; Supplier Part Number 1: N/A; Filter Characteristic: Butterworth; Filter Class: Switched Cap; Filter Type: Lowpass; Mounting Technology: Through Hole; ComponentLink1Description: Manufacturer URL; ComponentLink1URL: http://www.maximintegrated.com/; ComponentLink2Description: Datasheet; ComponentLink2URL: http://datasheets.maximintegrated.com/en/ds/MAX280-MXL1062.pdf; ComponentLink3Description: Package Specification; ComponentLink3URL: http://pdfserv.maximintegrated.com/package_dwgs/21-0045.PDF
footprint MAXM-J8-2 (DIP, 8-Leads, Body 10.29x6.73mm, Pitch 2.54mm)
pins: 1 FB (out) "External capacitor couples to the chip through this pin.", 2 AGND (power) "Ground. Connect to system ground for dual supply operation or mid-supply for single operarion. This pin should be well bypassed using a large capacitor for single supply operation.", 3 V- (power) "Negative supply volatage", 4 DIVIDER RATIO (in) "The oscillator frequency is divided by either 1, 2 or 4 depending upon the voltage on this pin. This in turn gives a clock to cutoff frequency ratio when tied to V+ of 100:1; when tied to GND of 200:1; and when tied to V- of (See Datasheet)", 5 COSC "Clock input pin for external clock applications.For internal clock operation connect an external capacitor between this pin and V-.", 6 V+ (power) "Positive supply volatage", 7 OUT (in) "Input to on-chip buffer amplifer", 8 BOUT (out) "Output of buffer amplifier"

## MAX280MJA/883B
designator U?
5th-Order Switched Capacitor Lowpass Filter, Butterworth, Zero-Error with Zero DC-Offset, -55 to 125 degC, 8-Pin DIP (J8-2); Generic Part Number: MAX280; PartNumber: MAX280MJA/883B; Filter Sections: 1; Industry Qualified: MIL-STD-883B; Order Per Filter Section: 5; Program Method: Clock; DatasheetVersion: Rev. 3; PackageVersion: Rev. B, 05/2011; PackageReference: J8-2; PackageDescription: 8-Pin Ceramic Dual-In-Line, Narrow (0.3in) (J8-2), Body 10.29 x 6.73 mm, Pitch 2.54 mm; Supplier 1: Mouser; Supplier Part Number 1: 700-MAX280MJA/883B-; Filter Characteristic: Butterworth; Filter Class: Switched Cap; Filter Type: Lowpass; Mounting Technology: Through Hole; ComponentLink1Description: Manufacturer URL; ComponentLink1URL: http://www.maximintegrated.com/; ComponentLink2Description: Datasheet; ComponentLink2URL: http://datasheets.maximintegrated.com/en/ds/MAX280-MXL1062.pdf; ComponentLink3Description: Package Specification; ComponentLink3URL: http://pdfserv.maximintegrated.com/package_dwgs/21-0045.PDF
footprint MAXM-J8-2 (DIP, 8-Leads, Body 10.29x6.73mm, Pitch 2.54mm)
pins: 1 FB (out) "External capacitor couples to the chip through this pin.", 2 AGND (power) "Ground. Connect to system ground for dual supply operation or mid-supply for single operarion. This pin should be well bypassed using a large capacitor for single supply operation.", 3 V- (power) "Negative supply volatage", 4 DIVIDER RATIO (in) "The oscillator frequency is divided by either 1, 2 or 4 depending upon the voltage on this pin. This in turn gives a clock to cutoff frequency ratio when tied to V+ of 100:1; when tied to GND of 200:1; and when tied to V- of (See Datasheet)", 5 COSC "Clock input pin for external clock applications.For internal clock operation connect an external capacitor between this pin and V-.", 6 V+ (power) "Positive supply volatage", 7 OUT (in) "Input to on-chip buffer amplifer", 8 BOUT (out) "Output of buffer amplifier"

## MAX281ACPA
designator U?
5th-Order Switched Capacitor Lowpass Filter, Bessel, Zero-Error with Zero DC-Offset, 0 to 70 degC, 8-Pin DIP (P8-3), Pb-Free; Generic Part Number: MAX281; PartNumber: MAX281ACPA; Filter Sections: 1; Order Per Filter Section: 5; Program Method: Clock; DatasheetVersion: Rev. 0; PackageVersion: Rev. E, 04/2011; PackageReference: P8-3; PackageDescription: 8-Pin Plastic Dual-In-Line, Narrow (0.3in) (P8-3), Body 9.375 x 6.985 mm, Pitch 2.54 mm; Supplier 1: Mouser; Supplier Part Number 1: N/A; Filter Characteristic: Bessel; Filter Class: Switched Cap; Filter Type: Lowpass; Mounting Technology: Through Hole; Code_JEDEC: MO-058AB; ComponentLink1Description: Manufacturer URL; ComponentLink1URL: http://www.maximintegrated.com/; ComponentLink2Description: Datasheet; ComponentLink2URL: http://datasheets.maximintegrated.com/en/ds/MAX281.pdf; ComponentLink3Description: Package Specification; ComponentLink3URL: http://pdfserv.maximintegrated.com/package_dwgs/21-0043.PDF
footprint MAXM-P8-3 (DIP, 8-Leads, Body 9.375x6.985mm, Pitch 2.54mm)
pins: 1 FB (out) "External capacitor couples to the chip through this pin", 2 AGND (power) "Ground. Connect to system ground for dual-supply operation or mid-supply for single operation. This pin should be well bypassed using a large capacitor for single-supply operation.", 3 V- (power) "Negative Supply Voltage", 4 DIVIDER RATIO (in) "Strapped to select clock to cutoff ratio (external clock), or internal divider ratio (internal oscillator)", 5 COSC "Clock input pin for external clock applications. For internal clock operation, connect an external capacitor between this pin and V-.", 6 V+ (power) "Positive Supply Voltage", 7 OUT (in) "Input to on-chip buffer amplifier", 8 BOUT (out) "Output of buffer amplifier"

## MAX281ACPA+
designator U?
5th-Order Switched Capacitor Lowpass Filter, Bessel, Zero-Error with Zero DC-Offset, 0 to 70 degC, 8-Pin DIP (P8+3), Pb-Free; Generic Part Number: MAX281; PartNumber: MAX281ACPA+; Filter Sections: 1; Order Per Filter Section: 5; Program Method: Clock; DatasheetVersion: Rev. 0; PackageVersion: Rev. E, 04/2011; PackageReference: P8+3; PackageDescription: 8-Pin Plastic Dual-In-Line, Narrow (0.3in) (P8+3), Body 9.375 x 6.985 mm, Pitch 2.54 mm; Supplier 1: Digi-Key; Supplier Part Number 1: MAX281ACPA+-ND; Supplier 2: Mouser; Supplier Part Number 2: 700-MAX281ACPA; Filter Characteristic: Bessel; Filter Class: Switched Cap; Filter Type: Lowpass; RoHS: Pb-Free; Mounting Technology: Through Hole; Code_JEDEC: MO-058AB; ComponentLink1Description: Manufacturer URL; ComponentLink1URL: http://www.maximintegrated.com/; ComponentLink2Description: Datasheet; ComponentLink2URL: http://datasheets.maximintegrated.com/en/ds/MAX281.pdf; ComponentLink3Description: Package Specification; ComponentLink3URL: http://pdfserv.maximintegrated.com/package_dwgs/21-0043.PDF
footprint MAXM-P8+3 (DIP, 8-Leads, Body 9.375x6.985mm, Pitch 2.54mm)
pins: 1 FB (out) "External capacitor couples to the chip through this pin", 2 AGND (power) "Ground. Connect to system ground for dual-supply operation or mid-supply for single operation. This pin should be well bypassed using a largr capacitor for single-supply operation.", 3 V- (power) "Negative Supply Voltage", 4 DIVIDER RATIO (in) "Strapped to select clock to cutoff ratio (external clock), or internal divider ratio (internal oscillator)", 5 COSC "Clock input pin for external clock applications. For internal clock operation, connect an external capacitor between this pin and V-.", 6 V+ (power) "Positive Supply Voltage", 7 OUT (in) "Input to on-chip buffer amplifier", 8 BOUT (out) "Output of buffer amplifier"

## MAX281ACWE
designator U?
5th-Order Switched Capacitor Lowpass Filter, Bessel, Zero-Error with Zero DC-Offset, 0 to 70 degC, 16-Pin SOIC (W16-2); Generic Part Number: MAX281; PartNumber: MAX281ACWE; Filter Sections: 1; Order Per Filter Section: 5; Program Method: Clock; DatasheetVersion: Rev. 0; PackageVersion: Rev. F, 10/2012; PackageReference: W16-2; PackageDescription: 16-Pin Small-Outline IC, Wide (0.3in) (W16-2), Body 10.3 x 7.5 mm, Pitch 1.27 mm; Supplier 1: Mouser; Supplier Part Number 1: N/A; Filter Characteristic: Bessel; Filter Class: Switched Cap; Filter Type: Lowpass; Mounting Technology: Surface Mount; Code_JEDEC: MS013; ComponentLink1Description: Manufacturer URL; ComponentLink1URL: http://www.maximintegrated.com/; ComponentLink2Description: Datasheet; ComponentLink2URL: http://datasheets.maximintegrated.com/en/ds/MAX281.pdf; ComponentLink3Description: Package Specification; ComponentLink3URL: http://pdfserv.maximintegrated.com/package_dwgs/21-0042.PDF
footprint MAXM-W16-2_N (SOIC, 16-Leads, Body 10.3x7.5mm, Pitch 1.27mm, IPC Medium Density)
footprint MAXM-W16-2_L (SOIC, 16-Leads, Body 10.3x7.5mm, Pitch 1.27mm, IPC High Density)
footprint MAXM-W16-2_M (SOIC, 16-Leads, Body 10.3x7.5mm, Pitch 1.27mm, IPC Low Density)
part A pins: 3 FB (out) "External capacitor couples to the chip through this pin.", 4 AGND (power) "Ground. Connect to system ground for dual supply operation or mid-supply for single operarion. This pin should be well bypassed using a large capacitor for single supply operation.", 5 V- (power) "Negative supply volatage", 6 DIVIDER RATIO (in) "The oscillator frequency is divided by either 1, 2 or 4 depending upon the voltage on this pin. This in turn gives a clock to cutoff frequency ratio when tied to V+ of 100:1; when tied to GND of 200:1; and when tied to V- of (See Datasheet)", 11 COSC "Clock input pin for external clock applications.For internal clock operation connect an external capacitor between this pin and V-.", 12 V+ (power) "Positive supply volatage", 13 OUT (in) "Input to on-chip buffer amplifer", 14 BOUT (out) "Output of buffer amplifier"
part B pins: 1 NC, 2 NC, 7 NC, 8 NC, 9 NC, 10 NC, 15 NC, 16 NC